# EAGLE library part 50224-011 (library con-aces-50224-series)
ACES CONNECTORS 50224 SERIES Aces Connectors 50224 <https://www.acesconn.com/tw/series/50224-xxxxx-xxx/3165>
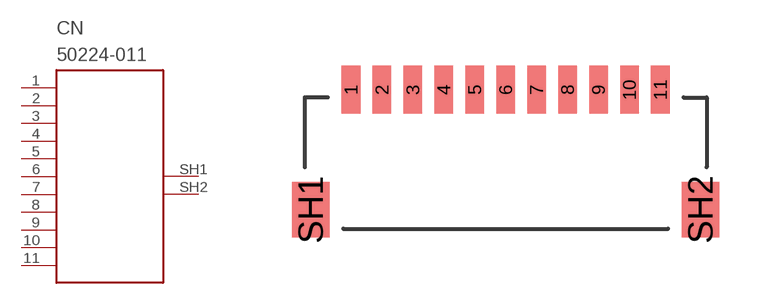
[diagram p7: symbol with the pads of 50224-011; footprint 50224-011]

Designator prefix CN

## 50224-011  [50224-011]
1  1
2  2
3  3
4  4
5  5
6  6
7  7
8  8
9  9
10  10
11  11
SH1  SH1
SH2  SH2

## Footprint 50224-011 (pad centres in mm)
smd 0.6 x 1.55: 1 -5,0; 2 -4,0; 3 -3,0; 4 -2,0; 5 -1,0; 6 0,0; 7 1,0; 8 2,0; 9 3,0; 10 4,0; 11 5,0
smd 1.2 x 1.8: SH1 -6.3,-3.875; SH2 6.3,-3.875